# Altium footprint library PcbLib.PcbLib: 20 footprints (part 1 of 2)
Each footprint in its own frame and in the unit in brackets; x right, y up, seen from the top. Pads: shape width x height; smd on the part's side, far side on the other; paste and mask are expansions set on the pad; w line width, h text height; cw(c..) or ccw(c..) is an arc to the next point about the centre after c.
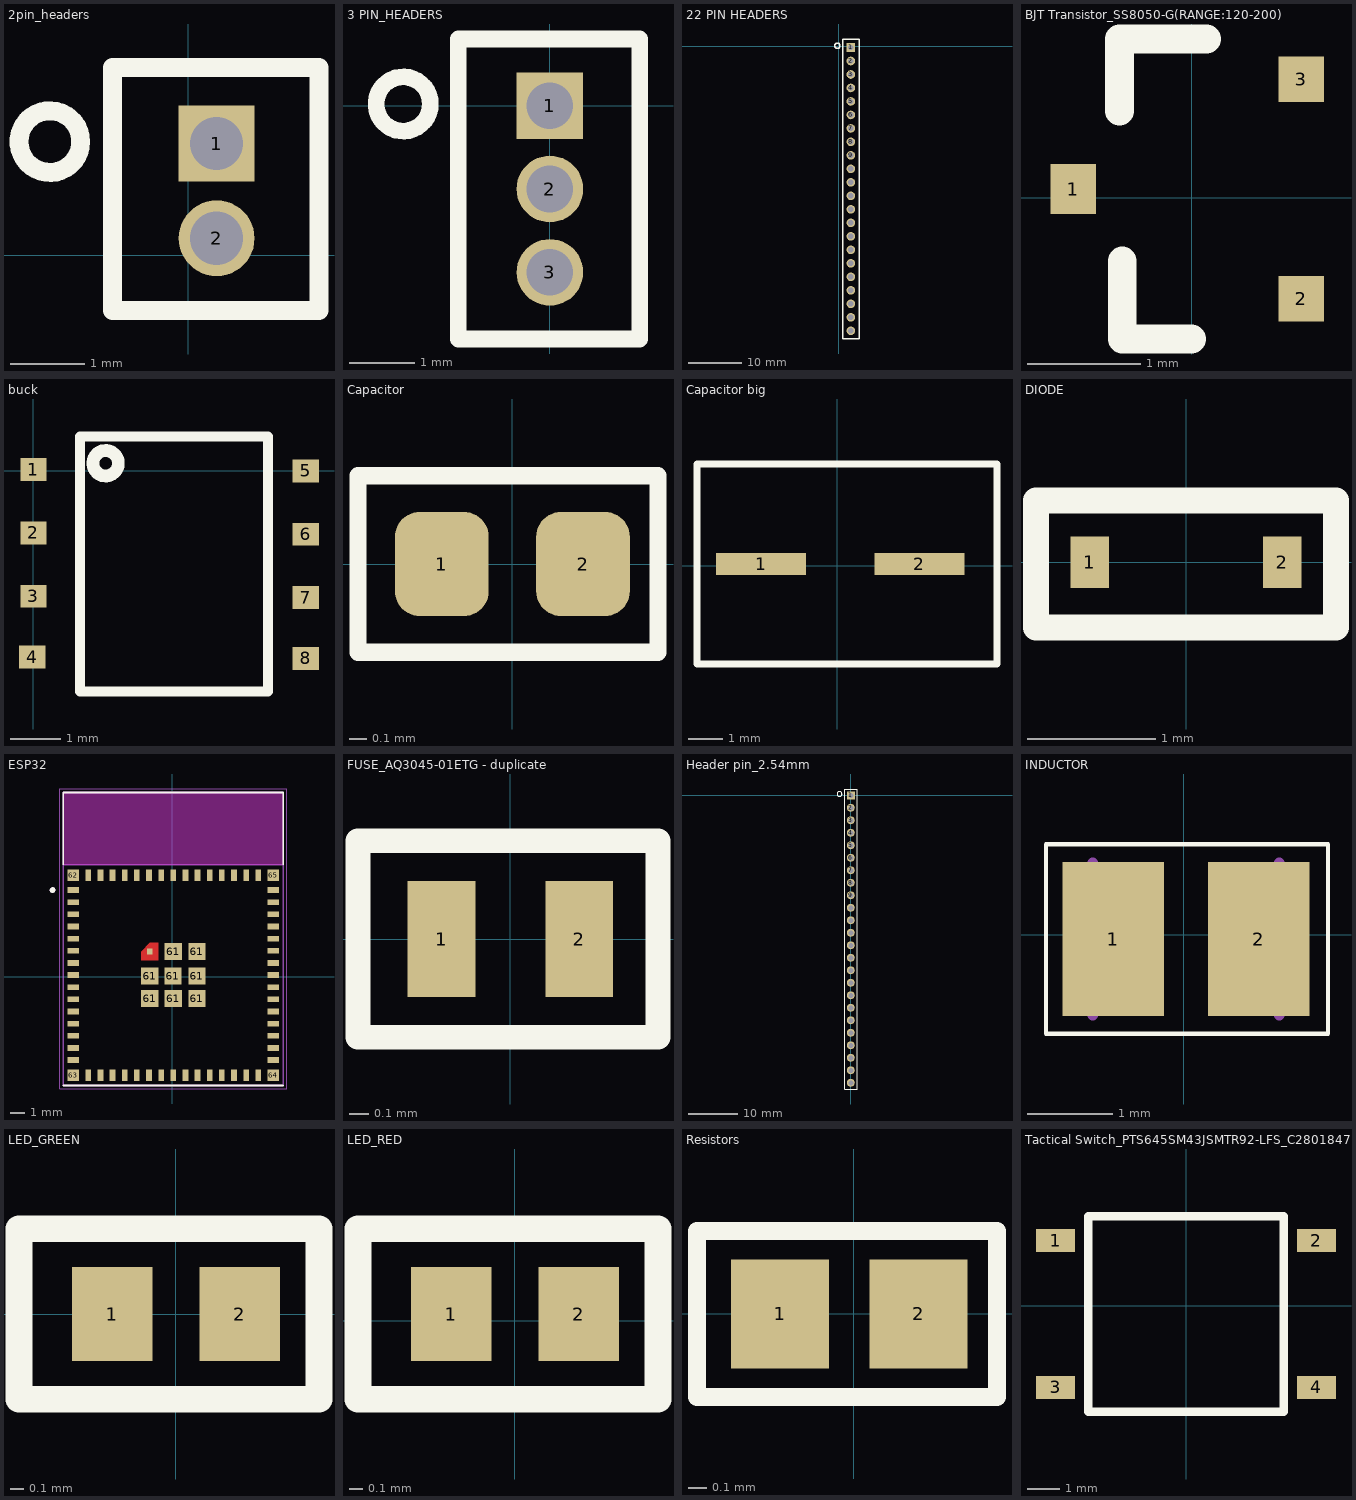
[diagram p0: the footprints below, top view; thin cyan lines are the x and y axes]

## 2pin_headers [mil]
pads (2):
  rect 40x40 hole 28: 1(15,59)
  round 40 hole 28: 2(15,9)
Top Overlay:
  circle w10: c-73,60 r16.28
  lines w10: -40,-29 69,-29 69,99 -40,99 -40,-29
3D body "FTS-102-01-F-S.stp": height 154, standoff -90, extent -28,-17 57,83

## 3 PIN_HEADERS [mil]
pads (3):
  rect 40x40 hole 28: 1(0,0)
  round 40 hole 28: 2(0,-50) 3(0,-100)
Top Overlay:
  circle w10: c-88,1 r16.28
  lines w10: -55,-140 54,-140 54,40 -55,40 -55,-140
3D body "FTS-103-01-F-S.stp": height 154, standoff -90, extent -42,-124 43,26

## 22 PIN HEADERS [mil]
pads (22):
  rect 64x64 hole 40: 1(90,-11)
  round 64 hole 40: 2(90,-111) 3(90,-211) 4(90,-311) 5(90,-411) 6(90,-511) 7(90,-611) 8(90,-711) 9(90,-811) 10(90,-911) 11(90,-1011) 12(90,-1111) 13(90,-1211) 14(90,-1311) 15(90,-1411) 16(90,-1511) 17(90,-1611) 18(90,-1711) 19(90,-1811) 20(90,-1911) 21(90,-2011) 22(90,-2111)
Top Overlay:
  circle w10: c-11,2 r20
  lines w10: 29,-2172 29,52 153,52 153,-2172 29,-2172
3D body "TSW-101-24-T-S.stp": height 365, standoff -115, extent 41,-160 141,-60
3D body "TSW-101-24-T-S.stp": height 365, standoff -115, extent 41,-60 141,40
3D body "TSW-101-24-T-S.stp": height 365, standoff -115, extent 41,-260 141,-160
3D body "TSW-101-24-T-S.stp": height 365, standoff -115, extent 41,-360 141,-260
3D body "TSW-101-24-T-S.stp": height 365, standoff -115, extent 41,-460 141,-360
3D body "TSW-101-24-T-S.stp": height 365, standoff -115, extent 41,-560 141,-460
3D body "TSW-101-24-T-S.stp": height 365, standoff -115, extent 41,-660 141,-560
3D body "TSW-101-24-T-S.stp": height 365, standoff -115, extent 41,-760 141,-660
3D body "TSW-101-24-T-S.stp": height 365, standoff -115, extent 41,-860 141,-760
3D body "TSW-101-24-T-S.stp": height 365, standoff -115, extent 41,-960 141,-860
3D body "TSW-101-24-T-S.stp": height 365, standoff -115, extent 41,-1060 141,-960
3D body "TSW-101-24-T-S.stp": height 365, standoff -115, extent 41,-1160 141,-1060
3D body "TSW-101-24-T-S.stp": height 365, standoff -115, extent 41,-1260 141,-1160
3D body "TSW-101-24-T-S.stp": height 365, standoff -115, extent 41,-1360 141,-1260
3D body "TSW-101-24-T-S.stp": height 365, standoff -115, extent 41,-1460 141,-1360
3D body "TSW-101-24-T-S.stp": height 365, standoff -115, extent 41,-1560 141,-1460
3D body "TSW-101-24-T-S.stp": height 365, standoff -115, extent 41,-1660 141,-1560
3D body "TSW-101-24-T-S.stp": height 365, standoff -115, extent 41,-1760 141,-1660
3D body "TSW-101-24-T-S.stp": height 365, standoff -115, extent 41,-1860 141,-1760
3D body "TSW-101-24-T-S.stp": height 365, standoff -115, extent 41,-1960 141,-1860
3D body "TSW-101-24-T-S.stp": height 365, standoff -115, extent 41,-2060 141,-1960
3D body "TSW-101-24-T-S.stp": height 365, standoff -115, extent 41,-2160 141,-2060

## BJT Transistor_SS8050-G(RANGE:120-200) [mil]
pads (3):
  rect 15.75x17.41 smd: 1(-41,3)
  rect 15.75x15.75 smd: 2(38,-35) 3(38,41)
Top Overlay:
  lines w10: -25,30 -25,55 5.25,55 ; -24,-22 -24,-49 0,-49
3D body "SS8050-G.step": height 45, standoff 0, extent -48.25,-54 46.25,60

## buck [mil]
pads (8):
  rect 20.72x17.99 smd: 1(0,1) 2(0,-49) 3(0,-99) 4(-1,-147) 5(215,0) 6(215,-50) 7(215,-100) 8(215,-148)
Top Overlay:
  circle w10: c57,6 r10.05
  lines w7.87: 36.73,-174 185,-174 185,27 36.73,27 36.73,-174
3D body "LM2594M-3.3_NOPB.STEP": height 68.9, standoff 0, extent -11,-169.91 225.22,23

## Capacitor [mm]
pads (2):
  rrect53% 0.54x0.6 smd: 1(-0.406,0) 2(0.406,0)
Top Overlay:
  lines w0.1: -0.889,-0.508 0.838,-0.508 0.838,0.508 -0.889,0.508 -0.889,-0.508
3D body "CL05A105KL5NRNC.step": height 0.55, standoff 0, extent -0.5,-0.254 0.5,0.246

## Capacitor big [mm]
pads (2):
  rect 2.6x0.65 smd: 1(-2.21,0.051) 2(2.376,0.051)
Top Overlay:
  lines w0.2: -4.064,-2.845 -4.064,2.946 4.623,2.946 4.623,-2.845 -4.064,-2.845
3D body "5 SIZE CODE C.stp": height 5.8, standoff 0, extent -3,-2.599 3,2.701

## DIODE [mm]
pads (2):
  rect 0.3x0.4 smd: 1(-0.75,0) 2(0.75,0)
Top Overlay:
  lines w0.2: -1.168,-0.508 1.168,-0.508 1.168,0.483 -1.168,0.483 -1.168,-0.508
3D body "RB521S30T1G.step": height 0.7, standoff 0, extent -0.8,-0.4 0.8,0.4

## ESP32 [mm]
pads (73):
  rect 0.8x0.4 smd: 1(-6.924,6.052) 2(-6.924,5.202) 3(-6.924,4.352) 4(-6.924,3.502) 5(-6.924,2.652) 6(-6.924,1.802) 7(-6.924,0.952) 8(-6.924,0.102) 9(-6.924,-0.748) 10(-6.924,-1.598) 11(-6.924,-2.448) 12(-6.924,-3.298) 13(-6.924,-4.148) 14(-6.924,-4.998) 15(-6.924,-5.848) 31(7.076,-5.848) 32(7.076,-4.998) 33(7.076,-4.148) 34(7.076,-3.298) 35(7.076,-2.448) 36(7.076,-1.598) 37(7.076,-0.748) 38(7.076,0.102) 39(7.076,0.952) 40(7.076,1.802) 41(7.076,2.652) 42(7.076,3.502) 43(7.076,4.352) 44(7.076,5.202) 45(7.076,6.052)
  rect 0.4x0.8 smd: 16(-5.874,-6.898) 17(-5.024,-6.898) 18(-4.174,-6.898) 19(-3.324,-6.898) 20(-2.474,-6.898) 21(-1.624,-6.898) 22(-0.774,-6.898) 23(0.076,-6.898) 24(0.926,-6.898) 25(1.776,-6.898) 26(2.626,-6.898) 27(3.476,-6.898) 28(4.326,-6.898) 29(5.176,-6.898) 30(6.026,-6.898) 46(6.026,7.102) 47(5.176,7.102) 48(4.326,7.102) 49(3.476,7.102) 50(2.626,7.102) 51(1.776,7.102) 52(0.926,7.102) 53(0.076,7.102) 54(-0.774,7.102) 55(-1.624,7.102) 56(-2.474,7.102) 57(-3.324,7.102) 58(-4.174,7.102) 59(-5.024,7.102) 60(-5.874,7.102)
  rect 1.2x1.2 smd: 61(-1.575,0.025) 61(-1.574,-1.548) 61(0.051,0.025) 61(0.076,-1.548) 61(0.076,1.752) 61(1.726,-1.548) 61(1.726,1.752) 61(1.727,0.025)
  rect 0.4x0.4 smd paste-1 mask+0: 61(-1.574,1.752)
  rect 0.8x0.8 smd: 62(-6.924,7.102) 63(-6.924,-6.898) 64(7.076,-6.898) 65(7.076,7.102)
Top Layer:
  region: -0.974,1.152 -2.174,1.152 -2.174,1.752 -1.574,2.352 -0.974,2.352
Top Overlay:
  circle w0.2: c-8.374,6.052 r0.1
  lines w0.127: -7.624,-7.623 7.776,-7.623 ; -7.624,7.827 -7.624,12.877 7.776,12.877 7.776,7.827
Top Paste:
  region: -0.974,1.152 -2.174,1.152 -2.174,1.752 -1.574,2.352 -0.974,2.352
Top Solder:
  region: -0.874,1.052 -2.274,1.052 -2.274,1.802 -1.624,2.452 -0.874,2.452
Keep-Out Layer:
  region: 7.776,7.827 -7.624,7.827 -7.624,12.877 7.776,12.877
  region: 7.776,7.827 -7.624,7.827 -7.624,12.877 7.776,12.877
Mechanical 13:
  circle w0.2: c-8.374,6.052 r0.1
  lines w0.127: -7.624,7.827 7.776,7.827 ; -7.624,7.827 -7.624,12.877 7.776,12.877 7.776,7.827 ; -7.624,7.827 -7.624,-7.623 7.776,-7.623 7.776,7.827
Mechanical 15:
  lines w0.05: -7.874,-7.873 8.026,-7.873 8.026,13.127 -7.874,13.127 -7.874,-7.873
3D body "step_temp.STEP": height 2.55, standoff 0, extent -7.624,-7.623 7.776,12.877

## FUSE_AQ3045-01ETG - duplicate [mm]
pads (2):
  rect 0.35x0.6 smd: 1(-0.356,0) 2(0.356,0)
Top Overlay:
  lines w0.127: -0.787,-0.508 -0.787,0.508 0.762,0.508 0.762,-0.508 -0.787,-0.508
3D body "AQ3045-01ETG.stp": height 0.42, standoff -0.01, extent -0.535,-0.34 0.535,0.335

## Header pin_2.54mm [mil]
pads (24):
  rect 64x64 hole 40: 1(0,0)
  round 64 hole 40: 2(0,-100) 3(0,-200) 4(0,-300) 5(0,-400) 6(0,-500) 7(0,-600) 8(0,-700) 9(0,-800) 10(0,-900) 11(0,-1000) 12(0,-1100) 13(0,-1200) 14(0,-1300) 15(0,-1400) 16(0,-1500) 17(0,-1600) 18(0,-1700) 19(0,-1800) 20(0,-1900) 21(0,-2000) 22(0,-2100) 23(0,-2200) 24(0,-2300)
Top Overlay:
  circle w10: c-90,10 r20
  lines w10: -50,-2350 50,-2350 50,50 -50,50 -50,-2350
3D body "022284245.stp": height 379.37, standoff -125.63, extent -49,-2350 49,50

## INDUCTOR [mm]
pads (2):
  rect 1.2x1.82 smd: 1(-0.835,-0.051) 2(0.885,-0.051)
Top Overlay:
  lines w0.05: -1.626,-1.168 1.702,-1.168 1.702,1.067 -1.626,1.067 -1.626,-1.168
Mechanical 13:
  lines w0.127: -1.075,-0.951 -1.075,0.849 ; 1.125,-0.951 1.125,0.849
3D body "DFE201612E-R24M=P2.STEP": height 1.2, standoff 0, extent -1,-0.851 1,0.749

## LED_GREEN [mm]
pads (2):
  rect 0.6x0.7 smd: 1(-0.475,0) 2(0.475,0)
Top Overlay:
  lines w0.2: -1.168,-0.635 -1.168,0.635 1.067,0.635 1.067,-0.635 -1.168,-0.635
3D body "User Library-LED_1006_G.STEP": height 0.2, standoff 0, extent -0.5,-0.3 0.5,0.3

## LED_RED [mm]
pads (2):
  rect 0.6x0.7 smd: 1(-0.475,0.051) 2(0.475,0.051)
Top Overlay:
  lines w0.2: -1.168,-0.584 -1.168,0.686 1.067,0.686 1.067,-0.584 -1.168,-0.584
3D body "User Library-LED_1006_R.STEP": height 0.2, standoff 0, extent -0.525,-0.249 0.475,0.351

## Resistors [mm]
pads (2):
  rect 0.54x0.6 smd: 1(-0.406,0) 2(0.356,0)
Top Overlay:
  lines w0.1: -0.864,-0.457 -0.864,0.457 0.787,0.457 0.787,-0.457 -0.864,-0.457
3D body "RES_AC0402FR_YAG.step": height 0.38, standoff 0, extent -0.572,-0.279 0.47,0.279

## Tactical Switch_PTS645SM43JSMTR92-LFS_C2801847 [mm]
pads (4):
  rect 1.2x0.7 smd: 1(-4,2) 2(4,2) 3(-4,-2.5) 4(4,-2.5)
Top Overlay:
  lines w0.254: -3,-3.25 -3,2.75 3,2.75 3,-3.25 -3,-3.25
Bottom Solder:
  text "Designator" at -1.746,0.012 h1.52
3D body "User Library-PTS645SL43SMTR92-LFS.STEP": height 4.3, standoff 0, extent -4.5,-3.25 4.5,2.75